# Altium footprint library CASE-D.PcbLib: 1 footprints
Each footprint in its own frame and in the unit in brackets; x right, y up, seen from the top. Pads: shape width x height; smd on the part's side, far side on the other; paste and mask are expansions set on the pad; w line width, h text height; cw(c..) or ccw(c..) is an arc to the next point about the centre after c.
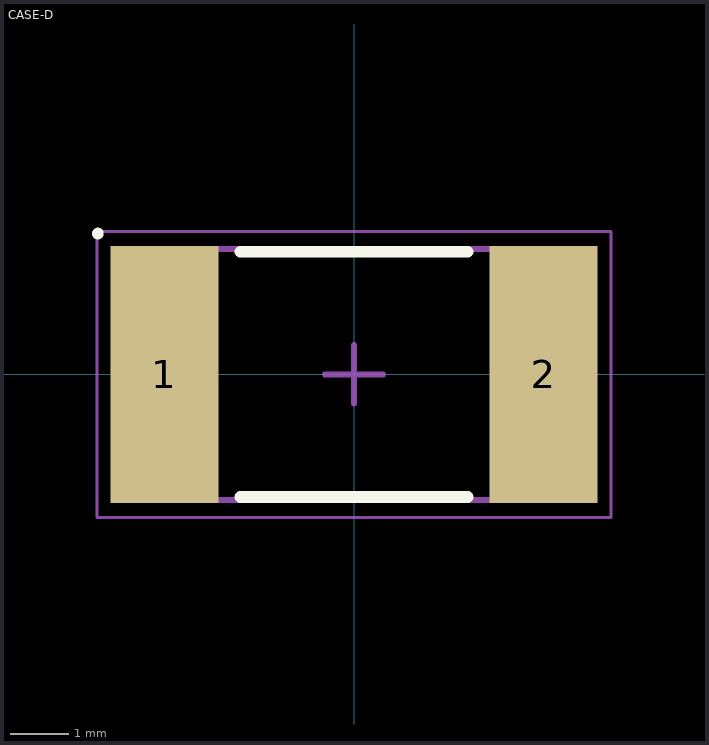
[diagram p0: the footprint, top view; thin cyan lines are the x and y axes]

## CASE-D [mm]
height 2.8
pads (2):
  rect 1.85x4.4 smd: 1(-3.25,0) 2(3.25,0)
Top Overlay:
  circle w0.1: c-4.387,2.412 r0.05
  lines w0.2: -1.95,-2.1 1.95,-2.1 ; -1.95,2.1 1.95,2.1
TopAssy:
  lines w0.1: -3.65,-2.15 -3.65,2.15 3.65,2.15 3.65,-2.15 -3.65,-2.15
Mechanical 15:
  lines w0.05: -4.4,-2.45 -4.4,2.45 4.4,2.45 4.4,-2.45 -4.4,-2.45
  lines w0.1: -0.5,0 0.5,0 ; 0,-0.5 0,0.5
3D body: height 2.8, standoff 0, extent -3.65,-2.15 -2.35,2.15
3D body: height 2.8, standoff 0, extent 2.35,-2.15 3.65,2.15
3D body: height 2.8, standoff 0, extent -2.35,-2.15 2.35,2.15